# EAGLE library part MMA7660 (library kgopalak)
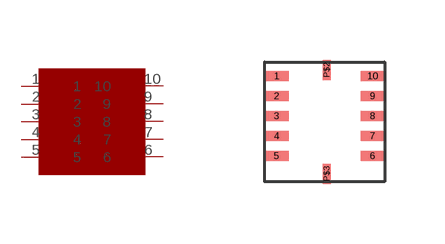
[diagram p0: symbol with the pads of MMA7660; footprint MMA7660]

Designator prefix -

## MMA7660  [MMA7660]
1  1
2  2
3  3
4  4
5  5
6  6
7  7
8  8
9  9
10  10

## Footprint MMA7660 (pad centres in mm)
smd 0.6 x 0.25: 1 0.3,-0.35; 2 0.3,-0.85; 3 0.3,-1.35; 4 0.3,-1.85; 5 0.3,-2.35; 6 2.7,-2.35; 7 2.7,-1.85; 8 2.7,-1.35; 9 2.7,-0.85; 10 2.7,-0.35
smd 0.2 x 0.5: P$2 1.55,-0.2; P$3 1.55,-2.8